# Altium schematic symbol library Trans_ON_Semiconductor_BC640TA_eec.SchLib: 1 symbol
Pins are listed as number, name and electrical type; pins without a type are passive.

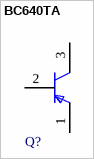
[diagram p0: symbol BC640TA]

## BC640TA
designator Q?  (value not drawn)
footprint ON_Semiconductor_135AR_MFG
pins: 1 E, 2 B, 3 C